# Altium integrated library Maxim Sensors.IntLib: 1171 symbols (part 3 of 61)
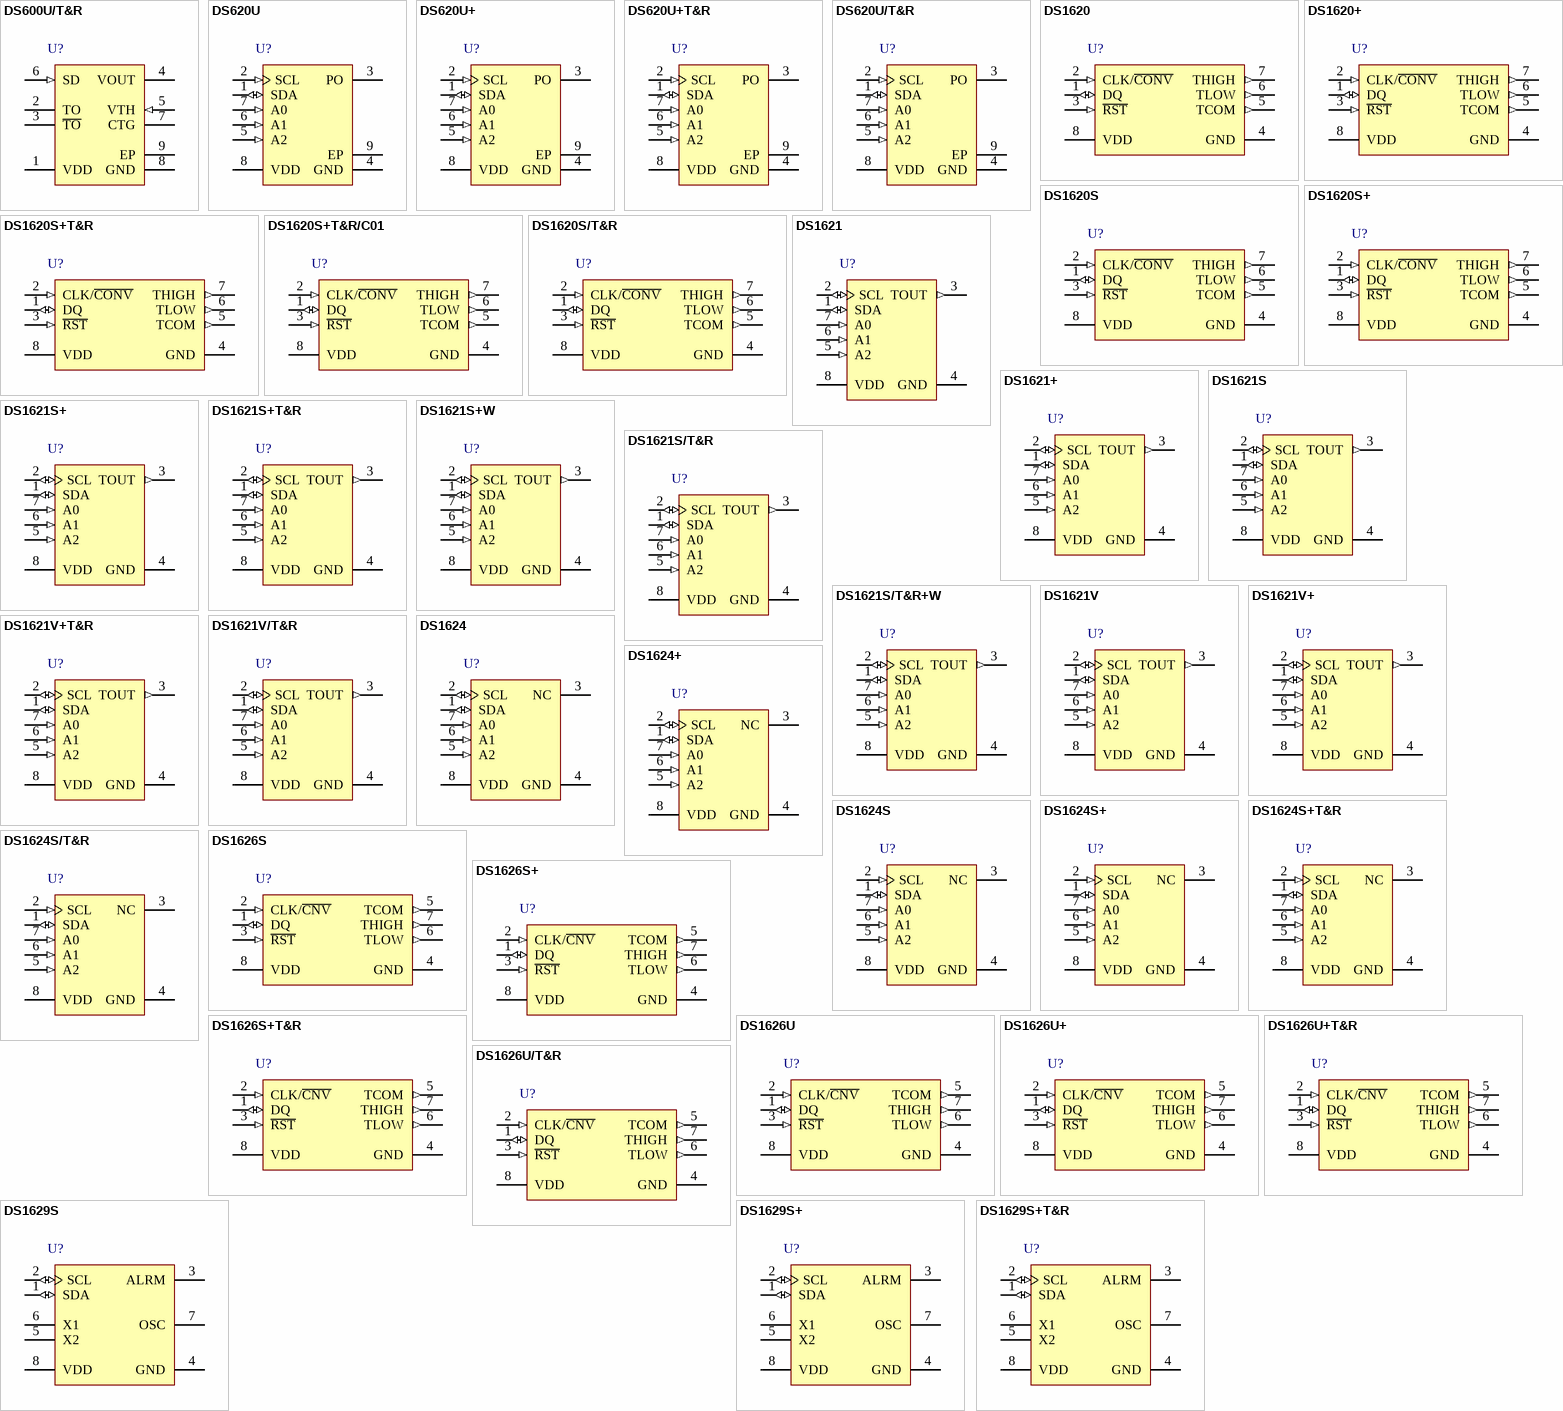
[diagram p35: symbols DS600U/T&R to DS1629S+T&R]

## DS1621S
designator U?
2-wire 0.5 degC Accurate Temperature Sensor and Thermostat, 9 to 12 Bits Temperature Resolution, -55 to 125 degC, 8-Pin SOIC (S8-4); Generic Part Number: DS1621; PartNumber: DS1621S; Functions: Single Temperature Alarm; Interface: 2-Wire/I2C/SMBus; Multi Droppable: Yes; Parasite Pwr.: No; DatasheetVersion: Rev. 3; PackageVersion: Rev. D, 10/2012; PackageReference: S8-4; PackageDescription: 8-Pin Small-Outline IC, Narrow, Body 3.9 x 4.9 mm, Pitch 1.27 mm; Supplier 1: Digi-Key; Supplier Part Number 1: DS1621S-ND; Supplier 2: Mouser; Supplier Part Number 2: N/A; Mounting Technology: Surface Mount; Code_JEDEC: MS-012; ComponentLink1Description: Manufacturer URL; ComponentLink1URL: http://www.maximintegrated.com/; ComponentLink2Description: Datasheet; ComponentLink2URL: http://datasheets.maximintegrated.com/en/ds/DS1621.pdf; ComponentLink3Description: Package Specification; ComponentLink3URL: http://pdfserv.maximintegrated.com/package_dwgs/21-0041.PDF
footprint MAXM-S8-4_N (SOIC, 8-Leads, Body 4.9x3.9mm, Pitch 1.27mm, IPC Medium Density)
footprint MAXM-S8-4_L (SOIC, 8-Leads, Body 4.9x3.9mm, Pitch 1.27mm, IPC High Density)
footprint MAXM-S8-4_M (SOIC, 8-Leads, Body 4.9x3.9mm, Pitch 1.27mm, IPC Low Density)
pins: 1 SDA (io) "Data input/output pin for 2-wire serial communication port.", 2 SCL (io) "Clock input/output pin for 2-wire serial communication port.", 3 TOUT (out) "Thermostat output. Active when temperature exceeds TH; will reset when temperature falls below TL.", 4 GND (power) "Ground pin.", 5 A2 (in) "Address input pin.", 6 A1 (in) "Address input pin.", 7 A0 (in) "Address input pin.", 8 VDD (power) "Supply voltage input power pin. (2.7V to 5.5V)"

## DS1621S+
designator U?
2-wire 0.5 degC Accurate Temperature Sensor and Thermostat, 9 to 12 Bits Temperature Resolution, -55 to 125 degC, 8-Pin SOIC (S8+2), Pb-Free; Generic Part Number: DS1621; PartNumber: DS1621S+; Functions: Single Temperature Alarm; Interface: 2-Wire/I2C/SMBus; Multi Droppable: Yes; Parasite Pwr.: No; DatasheetVersion: Rev. 3; PackageVersion: Rev. D, 10/2012; PackageReference: S8+2; PackageDescription: 8-Pin Small-Outline IC, Narrow (0.15in) (S8+2), Body 4.90 x 3.90 mm, Pitch 1.27 mm; Supplier 1: Digi-Key; Supplier Part Number 1: DS1621S+-ND; Supplier 2: Newark; Supplier Part Number 2: 23K3501; Supplier 3: Newark; Supplier Part Number 3: 91K6819; Supplier 4: Mouser; Supplier Part Number 4: 700-DS1621S; Mounting Technology: Surface Mount; Code_JEDEC: MS012; ComponentLink1Description: Manufacturer URL; ComponentLink1URL: http://www.maximintegrated.com/; ComponentLink2Description: Datasheet; ComponentLink2URL: http://datasheets.maximintegrated.com/en/ds/DS1621.pdf; ComponentLink3Description: Package Specification; ComponentLink3URL: http://pdfserv.maximintegrated.com/package_dwgs/21-0041.PDF
footprint MAXM-S8+2_N (SOIC, 8-Leads, Body 4.90x3.90mm, Pitch 1.27mm, IPC Medium Density)
footprint MAXM-S8+2_L (SOIC, 8-Leads, Body 4.90x3.90mm, Pitch 1.27mm, IPC High Density)
footprint MAXM-S8+2_M (SOIC, 8-Leads, Body 4.90x3.90mm, Pitch 1.27mm, IPC Low Density)
pins: 1 SDA (io) "Data input/output pin for 2-wire serial communication port.", 2 SCL (io) "Clock input/output pin for 2-wire serial communication port.", 3 TOUT (out) "Thermostat output. Active when temperature exceeds TH; will reset when temperature falls below TL.", 4 GND (power) "Ground pin.", 5 A2 (in) "Address input pin.", 6 A1 (in) "Address input pin.", 7 A0 (in) "Address input pin.", 8 VDD (power) "Supply voltage input power pin. (2.7V to 5.5V)"

## DS1621S+T&R
designator U?
2-wire 0.5 degC Accurate Temperature Sensor and Thermostat, 9 to 12 Bits Temperature Resolution, -55 to 125 degC, 8-Pin SOIC (S8+2), Pb-Free, Tape and Reel; Generic Part Number: DS1621; PartNumber: DS1621S+T&R; Functions: Single Temperature Alarm; Interface: 2-Wire/I2C/SMBus; Multi Droppable: Yes; Parasite Pwr.: No; DatasheetVersion: Rev. 3; PackageVersion: Rev. D, 10/2012; PackageReference: S8+2; PackageDescription: 8-Pin Small-Outline IC, Narrow (0.15in) (S8+2), Body 4.90 x 3.90 mm, Pitch 1.27 mm; Supplier 1: Digi-Key; Supplier Part Number 1: DS1621S+T&R-ND; Supplier 2: Mouser; Supplier Part Number 2: 700-DS1621ST&R; Packing: Tape and Reel; Mounting Technology: Surface Mount; Code_JEDEC: MS012; ComponentLink1Description: Manufacturer URL; ComponentLink1URL: http://www.maximintegrated.com/; ComponentLink2Description: Datasheet; ComponentLink2URL: http://datasheets.maximintegrated.com/en/ds/DS1621.pdf; ComponentLink3Description: Package Specification; ComponentLink3URL: http://pdfserv.maximintegrated.com/package_dwgs/21-0041.PDF
footprint MAXM-S8+2_N (SOIC, 8-Leads, Body 4.90x3.90mm, Pitch 1.27mm, IPC Medium Density)
footprint MAXM-S8+2_L (SOIC, 8-Leads, Body 4.90x3.90mm, Pitch 1.27mm, IPC High Density)
footprint MAXM-S8+2_M (SOIC, 8-Leads, Body 4.90x3.90mm, Pitch 1.27mm, IPC Low Density)
pins: 1 SDA (io) "Data input/output pin for 2-wire serial communication port.", 2 SCL (io) "Clock input/output pin for 2-wire serial communication port.", 3 TOUT (out) "Thermostat output. Active when temperature exceeds TH; will reset when temperature falls below TL.", 4 GND (power) "Ground pin.", 5 A2 (in) "Address input pin.", 6 A1 (in) "Address input pin.", 7 A0 (in) "Address input pin.", 8 VDD (power) "Supply voltage input power pin. (2.7V to 5.5V)"

## DS1621S+W
designator U?
2-wire 0.5 degC Accurate Temperature Sensor and Thermostat, 9 to 12 Bits Temperature Resolution, -55 to 125 degC, 8-Pin SOIC (S8+2), Pb-Free; Generic Part Number: DS1621; PartNumber: DS1621S+W; Functions: Single Temperature Alarm; Interface: 2-Wire/I2C/SMBus; Multi Droppable: Yes; Parasite Pwr.: No; DatasheetVersion: Rev. 3; PackageVersion: Rev. D, 10/2012; PackageReference: S8+2; PackageDescription: 8-Pin Small-Outline IC, Narrow (0.15in) (S8+2), Body 4.90 x 3.90 mm, Pitch 1.27 mm; Supplier 1: Mouser; Supplier Part Number 1: N/A; Mounting Technology: Surface Mount; Code_JEDEC: MS012; ComponentLink1Description: Manufacturer URL; ComponentLink1URL: http://www.maximintegrated.com/; ComponentLink2Description: Datasheet; ComponentLink2URL: http://datasheets.maximintegrated.com/en/ds/DS1621.pdf; ComponentLink3Description: Package Specification; ComponentLink3URL: http://pdfserv.maximintegrated.com/package_dwgs/21-0041.PDF
footprint MAXM-S8+2_N (SOIC, 8-Leads, Body 4.90x3.90mm, Pitch 1.27mm, IPC Medium Density)
footprint MAXM-S8+2_L (SOIC, 8-Leads, Body 4.90x3.90mm, Pitch 1.27mm, IPC High Density)
footprint MAXM-S8+2_M (SOIC, 8-Leads, Body 4.90x3.90mm, Pitch 1.27mm, IPC Low Density)
pins: 1 SDA (io) "Data input/output pin for 2-wire serial communication port.", 2 SCL (io) "Clock input/output pin for 2-wire serial communication port.", 3 TOUT (out) "Thermostat output. Active when temperature exceeds TH; will reset when temperature falls below TL.", 4 GND (power) "Ground pin.", 5 A2 (in) "Address input pin.", 6 A1 (in) "Address input pin.", 7 A0 (in) "Address input pin.", 8 VDD (power) "Supply voltage input power pin. (2.7V to 5.5V)"

## DS1621S/T&R
designator U?
2-wire 0.5 degC Accurate Temperature Sensor and Thermostat, 9 to 12 Bits Temperature Resolution, -55 to 125 degC, 8-Pin SOIC (S8-4), Tape and Reel; Generic Part Number: DS1621; PartNumber: DS1621S/T&R; Functions: Single Temperature Alarm; Interface: 2-Wire/I2C/SMBus; Multi Droppable: Yes; Parasite Pwr.: No; DatasheetVersion: Rev. 3; PackageVersion: Rev. D, 10/2012; PackageReference: S8-4; PackageDescription: 8-Pin Small-Outline IC, Narrow, Body 3.9 x 4.9 mm, Pitch 1.27 mm; Supplier 1: Digi-Key; Supplier Part Number 1: DS1621S/T&R-ND; Supplier 2: Mouser; Supplier Part Number 2: N/A; Packing: Tape and Reel; Mounting Technology: Surface Mount; Code_JEDEC: MS-012; ComponentLink1Description: Manufacturer URL; ComponentLink1URL: http://www.maximintegrated.com/; ComponentLink2Description: Datasheet; ComponentLink2URL: http://datasheets.maximintegrated.com/en/ds/DS1621.pdf; ComponentLink3Description: Package Specification; ComponentLink3URL: http://pdfserv.maximintegrated.com/package_dwgs/21-0041.PDF
footprint MAXM-S8-4_N (SOIC, 8-Leads, Body 4.9x3.9mm, Pitch 1.27mm, IPC Medium Density)
footprint MAXM-S8-4_L (SOIC, 8-Leads, Body 4.9x3.9mm, Pitch 1.27mm, IPC High Density)
footprint MAXM-S8-4_M (SOIC, 8-Leads, Body 4.9x3.9mm, Pitch 1.27mm, IPC Low Density)
pins: 1 SDA (io) "Data input/output pin for 2-wire serial communication port.", 2 SCL (io) "Clock input/output pin for 2-wire serial communication port.", 3 TOUT (out) "Thermostat output. Active when temperature exceeds TH; will reset when temperature falls below TL.", 4 GND (power) "Ground pin.", 5 A2 (in) "Address input pin.", 6 A1 (in) "Address input pin.", 7 A0 (in) "Address input pin.", 8 VDD (power) "Supply voltage input power pin. (2.7V to 5.5V)"

## DS1621S/T&R+W
designator U?
2-wire 0.5 degC Accurate Temperature Sensor and Thermostat, 9 to 12 Bits Temperature Resolution, -55 to 125 degC, 8-Pin SOIC (S8+2), Pb-Free, Tape and Reel; Generic Part Number: DS1621; PartNumber: DS1621S/T&R+W; Functions: Single Temperature Alarm; Interface: 2-Wire/I2C/SMBus; Multi Droppable: Yes; Parasite Pwr.: No; DatasheetVersion: Rev. 3; PackageVersion: Rev. D, 10/2012; PackageReference: S8+2; PackageDescription: 8-Pin Small-Outline IC, Narrow (0.15in) (S8+2), Body 4.90 x 3.90 mm, Pitch 1.27 mm; Supplier 1: Mouser; Supplier Part Number 1: N/A; Packing: Tape and Reel; Mounting Technology: Surface Mount; Code_JEDEC: MS012; ComponentLink1Description: Manufacturer URL; ComponentLink1URL: http://www.maximintegrated.com/; ComponentLink2Description: Datasheet; ComponentLink2URL: http://datasheets.maximintegrated.com/en/ds/DS1621.pdf; ComponentLink3Description: Package Specification; ComponentLink3URL: http://pdfserv.maximintegrated.com/package_dwgs/21-0041.PDF
footprint MAXM-S8+2_N (SOIC, 8-Leads, Body 4.90x3.90mm, Pitch 1.27mm, IPC Medium Density)
footprint MAXM-S8+2_L (SOIC, 8-Leads, Body 4.90x3.90mm, Pitch 1.27mm, IPC High Density)
footprint MAXM-S8+2_M (SOIC, 8-Leads, Body 4.90x3.90mm, Pitch 1.27mm, IPC Low Density)
pins: 1 SDA (io) "Data input/output pin for 2-wire serial communication port.", 2 SCL (io) "Clock input/output pin for 2-wire serial communication port.", 3 TOUT (out) "Thermostat output. Active when temperature exceeds TH; will reset when temperature falls below TL.", 4 GND (power) "Ground pin.", 5 A2 (in) "Address input pin.", 6 A1 (in) "Address input pin.", 7 A0 (in) "Address input pin.", 8 VDD (power) "Supply voltage input power pin. (2.7V to 5.5V)"

## DS1621V
designator U?
2-wire 0.5 degC Accurate Temperature Sensor and Thermostat, 9 to 12 Bits Temperature Resolution, -55 to 125 degC, 8-Pin SOIC (W8-2); Generic Part Number: DS1621; PartNumber: DS1621V; Functions: Single Temperature Alarm; Interface: 2-Wire/I2C/SMBus; Multi Droppable: Yes; Parasite Pwr.: No; DatasheetVersion: Rev. 3; PackageVersion: Rev. B, 01/2010; PackageReference: W8-2; PackageDescription: 8-Pin Small-Outline IC, Body 5.285 x 5.31 mm, Pitch 1.27 mm; Supplier 1: Digi-Key; Supplier Part Number 1: DS1621V-ND; Supplier 2: Mouser; Supplier Part Number 2: N/A; Mounting Technology: Surface Mount; ComponentLink1Description: Manufacturer URL; ComponentLink1URL: http://www.maximintegrated.com/; ComponentLink2Description: Datasheet; ComponentLink2URL: http://datasheets.maximintegrated.com/en/ds/DS1621.pdf; ComponentLink3Description: Package Specification; ComponentLink3URL: http://pdfserv.maximintegrated.com/package_dwgs/21-0262.PDF
footprint MAXM-W8-2_N (SOIC, 8-Leads, Body 5.31x5.285mm, Pitch 1.27mm, IPC Medium Density)
footprint MAXM-W8-2_L (SOIC, 8-Leads, Body 5.31x5.285mm, Pitch 1.27mm, IPC High Density)
footprint MAXM-W8-2_M (SOIC, 8-Leads, Body 5.31x5.285mm, Pitch 1.27mm, IPC Low Density)
pins: 1 SDA (io) "Data input/output pin for 2-wire serial communication port.", 2 SCL (io) "Clock input/output pin for 2-wire serial communication port.", 3 TOUT (out) "Thermostat output. Active when temperature exceeds TH; will reset when temperature falls below TL.", 4 GND (power) "Ground pin.", 5 A2 (in) "Address input pin.", 6 A1 (in) "Address input pin.", 7 A0 (in) "Address input pin.", 8 VDD (power) "Supply voltage input power pin. (2.7V to 5.5V)"

## DS1621V+
designator U?
2-wire 0.5 degC Accurate Temperature Sensor and Thermostat, 9 to 12 Bits Temperature Resolution, -55 to 125 degC, 8-Pin SOIC (W8+2), Pb-Free; Generic Part Number: DS1621; PartNumber: DS1621V+; Functions: Single Temperature Alarm; Interface: 2-Wire/I2C/SMBus; Multi Droppable: Yes; Parasite Pwr.: No; DatasheetVersion: Rev. 3; PackageVersion: Rev. B, 01/2010; PackageReference: W8+2; PackageDescription: 8-Pin Small-Outline IC, Body 5.285 x 5.31 mm, Pitch 1.27 mm; Supplier 1: Digi-Key; Supplier Part Number 1: DS1621V+-ND; Supplier 2: Mouser; Supplier Part Number 2: 700-DS1621V; Mounting Technology: Surface Mount; ComponentLink1Description: Manufacturer URL; ComponentLink1URL: http://www.maximintegrated.com/; ComponentLink2Description: Datasheet; ComponentLink2URL: http://datasheets.maximintegrated.com/en/ds/DS1621.pdf; ComponentLink3Description: Package Specification; ComponentLink3URL: http://pdfserv.maximintegrated.com/package_dwgs/21-0262.PDF
footprint MAXM-W8+2_N (SOIC, 8-Leads, Body 5.31x5.285mm, Pitch 1.27mm, IPC Medium Density)
footprint MAXM-W8+2_L (SOIC, 8-Leads, Body 5.31x5.285mm, Pitch 1.27mm, IPC High Density)
footprint MAXM-W8+2_M (SOIC, 8-Leads, Body 5.31x5.285mm, Pitch 1.27mm, IPC Low Density)
pins: 1 SDA (io) "Data input/output pin for 2-wire serial communication port.", 2 SCL (io) "Clock input/output pin for 2-wire serial communication port.", 3 TOUT (out) "Thermostat output. Active when temperature exceeds TH; will reset when temperature falls below TL.", 4 GND (power) "Ground pin.", 5 A2 (in) "Address input pin.", 6 A1 (in) "Address input pin.", 7 A0 (in) "Address input pin.", 8 VDD (power) "Supply voltage input power pin. (2.7V to 5.5V)"

## DS1621V+T&R
designator U?
2-wire 0.5 degC Accurate Temperature Sensor and Thermostat, 9 to 12 Bits Temperature Resolution, -55 to 125 degC, 8-Pin SOIC (W8+2), Pb-Free, Tape and Reel; Generic Part Number: DS1621; PartNumber: DS1621V+T&R; Functions: Single Temperature Alarm; Interface: 2-Wire/I2C/SMBus; Multi Droppable: Yes; Parasite Pwr.: No; DatasheetVersion: Rev. 3; PackageVersion: Rev. B, 01/2010; PackageReference: W8+2; PackageDescription: 8-Pin Small-Outline IC, Body 5.285 x 5.31 mm, Pitch 1.27 mm; Supplier 1: Digi-Key; Supplier Part Number 1: DS1621V+T&R-ND; Supplier 2: Mouser; Supplier Part Number 2: 700-DS1621VT&R; Packing: Tape and Reel; Mounting Technology: Surface Mount; ComponentLink1Description: Manufacturer URL; ComponentLink1URL: http://www.maximintegrated.com/; ComponentLink2Description: Datasheet; ComponentLink2URL: http://datasheets.maximintegrated.com/en/ds/DS1621.pdf; ComponentLink3Description: Package Specification; ComponentLink3URL: http://pdfserv.maximintegrated.com/package_dwgs/21-0262.PDF
footprint MAXM-W8+2_N (SOIC, 8-Leads, Body 5.31x5.285mm, Pitch 1.27mm, IPC Medium Density)
footprint MAXM-W8+2_L (SOIC, 8-Leads, Body 5.31x5.285mm, Pitch 1.27mm, IPC High Density)
footprint MAXM-W8+2_M (SOIC, 8-Leads, Body 5.31x5.285mm, Pitch 1.27mm, IPC Low Density)
pins: 1 SDA (io) "Data input/output pin for 2-wire serial communication port.", 2 SCL (io) "Clock input/output pin for 2-wire serial communication port.", 3 TOUT (out) "Thermostat output. Active when temperature exceeds TH; will reset when temperature falls below TL.", 4 GND (power) "Ground pin.", 5 A2 (in) "Address input pin.", 6 A1 (in) "Address input pin.", 7 A0 (in) "Address input pin.", 8 VDD (power) "Supply voltage input power pin. (2.7V to 5.5V)"

## DS1621V/T&R
designator U?
2-wire 0.5 degC Accurate Temperature Sensor and Thermostat, 9 to 12 Bits Temperature Resolution, -55 to 125 degC, 8-Pin SOIC (W8-2), Tape and Reel; Generic Part Number: DS1621; PartNumber: DS1621V/T&R; Functions: Single Temperature Alarm; Interface: 2-Wire/I2C/SMBus; Multi Droppable: Yes; Parasite Pwr.: No; DatasheetVersion: Rev. 3; PackageVersion: Rev. B, 01/2010; PackageReference: W8-2; PackageDescription: 8-Pin Small-Outline IC, Body 5.285 x 5.31 mm, Pitch 1.27 mm; Supplier 1: Digi-Key; Supplier Part Number 1: DS1621V/T&R-ND; Supplier 2: Mouser; Supplier Part Number 2: N/A; Packing: Tape and Reel; Mounting Technology: Surface Mount; ComponentLink1Description: Manufacturer URL; ComponentLink1URL: http://www.maximintegrated.com/; ComponentLink2Description: Datasheet; ComponentLink2URL: http://datasheets.maximintegrated.com/en/ds/DS1621.pdf; ComponentLink3Description: Package Specification; ComponentLink3URL: http://pdfserv.maximintegrated.com/package_dwgs/21-0262.PDF
footprint MAXM-W8-2_N (SOIC, 8-Leads, Body 5.31x5.285mm, Pitch 1.27mm, IPC Medium Density)
footprint MAXM-W8-2_L (SOIC, 8-Leads, Body 5.31x5.285mm, Pitch 1.27mm, IPC High Density)
footprint MAXM-W8-2_M (SOIC, 8-Leads, Body 5.31x5.285mm, Pitch 1.27mm, IPC Low Density)
pins: 1 SDA (io) "Data input/output pin for 2-wire serial communication port.", 2 SCL (io) "Clock input/output pin for 2-wire serial communication port.", 3 TOUT (out) "Thermostat output. Active when temperature exceeds TH; will reset when temperature falls below TL.", 4 GND (power) "Ground pin.", 5 A2 (in) "Address input pin.", 6 A1 (in) "Address input pin.", 7 A0 (in) "Address input pin.", 8 VDD (power) "Supply voltage input power pin. (2.7V to 5.5V)"

## DS1624
designator U?
Digital Thermometer and 256-Byte EEPROM, 13 Bits Temperature Resolution, -55 to 125 degC, 8-Pin DIP (P8-4); Generic Part Number: DS1624; Functions: Memory; Interface: 2-Wire/I2C/SMBus; Multi Droppable: Yes; Parasite Pwr.: No; DatasheetVersion: Rev. 3; PackageVersion: Rev. E, 04/2011; PackageReference: P8-4; PackageDescription: 8-Pin Plastic Dual-In-Line, Narrow, Body 9.375 x 6.985 mm, Pitch 2.54 mm; Supplier 1: Digi-Key; Supplier Part Number 1: DS1624-ND; Supplier 2: Mouser; Supplier Part Number 2: N/A; Mounting Technology: Through Hole; Code_JEDEC: MO-058AB; PartNumber: DS1624; ComponentLink1Description: Manufacturer URL; ComponentLink1URL: http://www.maximintegrated.com/; ComponentLink2Description: Datasheet; ComponentLink2URL: http://datasheets.maximintegrated.com/en/ds/DS1624.pdf; ComponentLink3Description: Package Specification; ComponentLink3URL: http://pdfserv.maximintegrated.com/package_dwgs/21-0043.PDF
footprint MAXM-P8-4 (DIP, 8-Leads, Body 9.375x6.985mm, Pitch 2.54mm)
pins: 1 SDA (io) "Data input/output pin for 2-wire serial communication port.", 2 SCL (io) "Clock input/output pin for 2-wire serial communication port.", 3 NC "No connect. No Internal Connection.", 4 GND (power) "Ground pin.", 5 A2 (in) "Address input pin.", 6 A1 (in) "Address input pin.", 7 A0 (in) "Address input pin.", 8 VDD (power) "Supply Voltage 2.7V to 5.5V input power pin."

## DS1624+
designator U?
Digital Thermometer and 256-Byte EEPROM, 13 Bits Temperature Resolution, -55 to 125 degC, 8-Pin DIP (P8+4), Pb-Free; Generic Part Number: DS1624; PartNumber: DS1624+; Functions: Memory; Interface: 2-Wire/I2C/SMBus; Multi Droppable: Yes; Parasite Pwr.: No; DatasheetVersion: Rev. 3; PackageVersion: Rev. E, 04/2011; PackageReference: P8+4; PackageDescription: 8-Pin Plastic Dual-In-Line, Narrow, Body 9.375 x 6.985 mm, Pitch 2.54 mm; Supplier 1: Digi-Key; Supplier Part Number 1: DS1624+-ND; Supplier 2: Mouser; Supplier Part Number 2: 700-DS1624; Mounting Technology: Through Hole; Code_JEDEC: MO-058AB; ComponentLink1Description: Manufacturer URL; ComponentLink1URL: http://www.maximintegrated.com/; ComponentLink2Description: Datasheet; ComponentLink2URL: http://datasheets.maximintegrated.com/en/ds/DS1624.pdf; ComponentLink3Description: Package Specification; ComponentLink3URL: http://pdfserv.maximintegrated.com/package_dwgs/21-0043.PDF
footprint MAXM-P8+4 (DIP, 8-Leads, Body 9.375x6.985mm, Pitch 2.54mm)
pins: 1 SDA (io) "Data input/output pin for 2-wire serial communication port.", 2 SCL (io) "Clock input/output pin for 2-wire serial communication port.", 3 NC "No connect. No Internal Connection.", 4 GND (power) "Ground pin.", 5 A2 (in) "Address input pin.", 6 A1 (in) "Address input pin.", 7 A0 (in) "Address input pin.", 8 VDD (power) "Supply Voltage 2.7V to 5.5V input power pin."

## DS1624S
designator U?
Digital Thermometer and 256-Byte EEPROM, 13 Bits Temperature Resolution, -55 to 125 degC, 8-Pin SOIC (W8+2); Generic Part Number: DS1624; PartNumber: DS1624S; Functions: Memory; Interface: 2-Wire/I2C/SMBus; Multi Droppable: Yes; Parasite Pwr.: No; DatasheetVersion: Rev. 3; PackageVersion: Rev. B, 01/2010; PackageReference: W8-2; PackageDescription: 8-Pin Small-Outline IC, Body 5.285 x 5.31 mm, Pitch 1.27 mm; Supplier 1: Digi-Key; Supplier Part Number 1: DS1624S-ND; Supplier 2: Mouser; Supplier Part Number 2: N/A; Mounting Technology: Surface Mount; ComponentLink1Description: Manufacturer URL; ComponentLink1URL: http://www.maximintegrated.com/; ComponentLink2Description: Datasheet; ComponentLink2URL: http://datasheets.maximintegrated.com/en/ds/DS1624.pdf; ComponentLink3Description: Package Specification; ComponentLink3URL: http://pdfserv.maximintegrated.com/package_dwgs/21-0262.PDF
footprint MAXM-W8-2_N (SOIC, 8-Leads, Body 5.31x5.285mm, Pitch 1.27mm, IPC Medium Density)
footprint MAXM-W8-2_L (SOIC, 8-Leads, Body 5.31x5.285mm, Pitch 1.27mm, IPC High Density)
footprint MAXM-W8-2_M (SOIC, 8-Leads, Body 5.31x5.285mm, Pitch 1.27mm, IPC Low Density)
pins: 1 SDA (io) "Data input/output pin for 2-wire serial communication port.", 2 SCL (in) "Clock input/output pin for 2-wire serial communication port.", 3 NC "No connect. No Internal Connection.", 4 GND (power) "Ground pin.", 5 A2 (in) "Address input pin.", 6 A1 (in) "Address input pin.", 7 A0 (in) "Address input pin.", 8 VDD (power) "Supply Voltage 2.7V to 5.5V input power pin."

## DS1624S+
designator U?
Digital Thermometer and 256-Byte EEPROM, 13 Bits Temperature Resolution, -55 to 125 degC, 8-Pin SOIC (W8+2), Pb-Free; Generic Part Number: DS1624; PartNumber: DS1624S+; Functions: Memory; Interface: 2-Wire/I2C/SMBus; Multi Droppable: Yes; Parasite Pwr.: No; DatasheetVersion: Rev. 3; PackageVersion: Rev. B, 01/2010; PackageReference: W8+2; PackageDescription: 8-Pin Small-Outline IC, Body 5.285 x 5.31 mm, Pitch 1.27 mm; Supplier 1: Digi-Key; Supplier Part Number 1: DS1624S+-ND; Supplier 2: Newark; Supplier Part Number 2: 91K6820; Supplier 3: Mouser; Supplier Part Number 3: 700-DS1624S; Mounting Technology: Surface Mount; ComponentLink1Description: Manufacturer URL; ComponentLink1URL: http://www.maximintegrated.com/; ComponentLink2Description: Datasheet; ComponentLink2URL: http://datasheets.maximintegrated.com/en/ds/DS1624.pdf; ComponentLink3Description: Package Specification; ComponentLink3URL: http://pdfserv.maximintegrated.com/package_dwgs/21-0262.PDF
footprint MAXM-W8+2_N (SOIC, 8-Leads, Body 5.31x5.285mm, Pitch 1.27mm, IPC Medium Density)
footprint MAXM-W8+2_L (SOIC, 8-Leads, Body 5.31x5.285mm, Pitch 1.27mm, IPC High Density)
footprint MAXM-W8+2_M (SOIC, 8-Leads, Body 5.31x5.285mm, Pitch 1.27mm, IPC Low Density)
pins: 1 SDA (io) "Data input/output pin for 2-wire serial communication port.", 2 SCL (in) "Clock input/output pin for 2-wire serial communication port.", 3 NC "No connect. No Internal Connection.", 4 GND (power) "Ground pin.", 5 A2 (in) "Address input pin.", 6 A1 (in) "Address input pin.", 7 A0 (in) "Address input pin.", 8 VDD (power) "Supply Voltage 2.7V to 5.5V input power pin."

## DS1624S+T&R
designator U?
Digital Thermometer and 256-Byte EEPROM, 13 Bits Temperature Resolution, -55 to 125 degC, 8-Pin SOIC (W8+2), Pb-Free, Tape and Reel; Generic Part Number: DS1624; PartNumber: DS1624S+T&R; Functions: Memory; Interface: 2-Wire/I2C/SMBus; Multi Droppable: Yes; Parasite Pwr.: No; DatasheetVersion: Rev. 3; PackageVersion: Rev. B, 01/2010; PackageReference: W8+2; PackageDescription: 8-Pin Small-Outline IC, Body 5.285 x 5.31 mm, Pitch 1.27 mm; Supplier 1: Digi-Key; Supplier Part Number 1: DS1624S+T&R-ND; Supplier 2: Mouser; Supplier Part Number 2: 700-DS1624ST&R; Packing: Tape and Reel; Mounting Technology: Surface Mount; ComponentLink1Description: Manufacturer URL; ComponentLink1URL: http://www.maximintegrated.com/; ComponentLink2Description: Datasheet; ComponentLink2URL: http://datasheets.maximintegrated.com/en/ds/DS1624.pdf; ComponentLink3Description: Package Specification; ComponentLink3URL: http://pdfserv.maximintegrated.com/package_dwgs/21-0262.PDF
footprint MAXM-W8+2_N (SOIC, 8-Leads, Body 5.31x5.285mm, Pitch 1.27mm, IPC Medium Density)
footprint MAXM-W8+2_L (SOIC, 8-Leads, Body 5.31x5.285mm, Pitch 1.27mm, IPC High Density)
footprint MAXM-W8+2_M (SOIC, 8-Leads, Body 5.31x5.285mm, Pitch 1.27mm, IPC Low Density)
pins: 1 SDA (io) "Data input/output pin for 2-wire serial communication port.", 2 SCL (in) "Clock input/output pin for 2-wire serial communication port.", 3 NC "No connect. No Internal Connection.", 4 GND (power) "Ground pin.", 5 A2 (in) "Address input pin.", 6 A1 (in) "Address input pin.", 7 A0 (in) "Address input pin.", 8 VDD (power) "Supply Voltage 2.7V to 5.5V input power pin."

## DS1624S/T&R
designator U?
Digital Thermometer and 256-Byte EEPROM, 13 Bits Temperature Resolution, -55 to 125 degC, 8-Pin SOIC (W8+2), Tape and Reel; Generic Part Number: DS1624; PartNumber: DS1624S/T&R; Functions: Memory; Interface: 2-Wire/I2C/SMBus; Multi Droppable: Yes; Parasite Pwr.: No; DatasheetVersion: Rev. 3; PackageVersion: Rev. B, 01/2010; PackageReference: W8-2; PackageDescription: 8-Pin Small-Outline IC, Body 5.285 x 5.31 mm, Pitch 1.27 mm; Supplier 1: Digi-Key; Supplier Part Number 1: DS1624S/T&R-ND; Supplier 2: Mouser; Supplier Part Number 2: N/A; Packing: Tape and Reel; Mounting Technology: Surface Mount; ComponentLink1Description: Manufacturer URL; ComponentLink1URL: http://www.maximintegrated.com/; ComponentLink2Description: Datasheet; ComponentLink2URL: http://datasheets.maximintegrated.com/en/ds/DS1624.pdf; ComponentLink3Description: Package Specification; ComponentLink3URL: http://pdfserv.maximintegrated.com/package_dwgs/21-0262.PDF
footprint MAXM-W8-2_N (SOIC, 8-Leads, Body 5.31x5.285mm, Pitch 1.27mm, IPC Medium Density)
footprint MAXM-W8-2_L (SOIC, 8-Leads, Body 5.31x5.285mm, Pitch 1.27mm, IPC High Density)
footprint MAXM-W8-2_M (SOIC, 8-Leads, Body 5.31x5.285mm, Pitch 1.27mm, IPC Low Density)
pins: 1 SDA (io) "Data input/output pin for 2-wire serial communication port.", 2 SCL (in) "Clock input/output pin for 2-wire serial communication port.", 3 NC "No connect. No Internal Connection.", 4 GND (power) "Ground pin.", 5 A2 (in) "Address input pin.", 6 A1 (in) "Address input pin.", 7 A0 (in) "Address input pin.", 8 VDD (power) "Supply Voltage 2.7V to 5.5V input power pin."

## DS1626S
designator U?
3-Wire + / - 0.5 degC Accurate Digital Thermometer and Thermostat, -55 to 125 degC, 8-Pin SOIC (W8-2); Generic Part Number: DS1626; PartNumber: DS1626S; Functions: Dual Output Temperature Switch, Dual Temperature Alarms, Standalone Thermostat, Temperature Switch/Temperature Comparator; Interface: 3-Wire, Logic; Switch Type: Local; DatasheetVersion: Rev. 4; PackageVersion: Rev. B, 01/2010; PackageReference: W8-2; PackageDescription: 8-Pin Small-Outline IC, Body 5.285 x 5.31 mm, Pitch 1.27 mm; Supplier 1: Mouser; Supplier Part Number 1: N/A; Mounting Technology: Surface Mount; ComponentLink1Description: Manufacturer URL; ComponentLink1URL: http://www.maximintegrated.com/; ComponentLink2Description: Datasheet; ComponentLink2URL: http://datasheets.maximintegrated.com/en/ds/DS1626-DS1726.pdf; ComponentLink3Description: Package Specification; ComponentLink3URL: http://pdfserv.maximintegrated.com/package_dwgs/21-0262.PDF
footprint MAXM-W8-2_N (SOIC, 8-Leads, Body 5.31x5.285mm, Pitch 1.27mm, IPC Medium Density)
footprint MAXM-W8-2_L (SOIC, 8-Leads, Body 5.31x5.285mm, Pitch 1.27mm, IPC High Density)
footprint MAXM-W8-2_M (SOIC, 8-Leads, Body 5.31x5.285mm, Pitch 1.27mm, IPC Low Density)
pins: 1 DQ (io) "Data Input/Output Pin (Tri-State) for 3-Wire Serial Communication", 2 CLK/~{CNV} (in) "Clock Input Pin for 3-Wire Serial Communication. Controls temperature measurements when the DS1626/DS1726 is configured as a stand-alone thermostat", 3 ~{RST} (in) "Reset Input Pin for 3-Wire Serial Communication", 4 GND (power) "Ground Pin", 5 TCOM (out) "Thermostat Output Pin (Push-Pull) with Programmable Hysteresis", 6 TLOW (out) "Thermostat Output Pin (Push-Pull) with TL Trip Point", 7 THIGH (out) "Thermostat Output Pin (Push-Pull) with TH Trip Point", 8 VDD (power) "Supply Voltage. +2.7V to +5.5V input power pin."

## DS1626S+
designator U?
3-Wire + / - 0.5 degC Accurate Digital Thermometer and Thermostat, -55 to 125 degC, 8-Pin SOIC (W8+2), Pb-Free; Generic Part Number: DS1626; PartNumber: DS1626S+; Functions: Dual Output Temperature Switch, Dual Temperature Alarms, Standalone Thermostat, Temperature Switch/Temperature Comparator; Interface: 3-Wire, Logic; Switch Type: Local; DatasheetVersion: Rev. 4; PackageVersion: Rev. B, 01/2010; PackageReference: W8+2; PackageDescription: 8-Pin Small-Outline IC, Body 5.285 x 5.31 mm, Pitch 1.27 mm; Supplier 1: Digi-Key; Supplier Part Number 1: DS1626S+-ND; Supplier 2: Farnell; Supplier Part Number 2: 1569965; Supplier 3: Newark; Supplier Part Number 3: 26R5781; Supplier 4: Mouser; Supplier Part Number 4: 700-DS1626S; RoHS: Pb-Free; Mounting Technology: Surface Mount; ComponentLink1Description: Manufacturer URL; ComponentLink1URL: http://www.maximintegrated.com/; ComponentLink2Description: Datasheet; ComponentLink2URL: http://datasheets.maximintegrated.com/en/ds/DS1626-DS1726.pdf; ComponentLink3Description: Package Specification; ComponentLink3URL: http://pdfserv.maximintegrated.com/package_dwgs/21-0262.PDF
footprint MAXM-W8+2_N (SOIC, 8-Leads, Body 5.31x5.285mm, Pitch 1.27mm, IPC Medium Density)
footprint MAXM-W8+2_L (SOIC, 8-Leads, Body 5.31x5.285mm, Pitch 1.27mm, IPC High Density)
footprint MAXM-W8+2_M (SOIC, 8-Leads, Body 5.31x5.285mm, Pitch 1.27mm, IPC Low Density)
pins: 1 DQ (io) "Data Input/Output Pin (Tri-State) for 3-Wire Serial Communication", 2 CLK/~{CNV} (in) "Clock Input Pin for 3-Wire Serial Communication. Controls temperature measurements when the DS1626/DS1726 is configured as a stand-alone thermostat", 3 ~{RST} (in) "Reset Input Pin for 3-Wire Serial Communication", 4 GND (power) "Ground Pin", 5 TCOM (out) "Thermostat Output Pin (Push-Pull) with Programmable Hysteresis", 6 TLOW (out) "Thermostat Output Pin (Push-Pull) with TL Trip Point", 7 THIGH (out) "Thermostat Output Pin (Push-Pull) with TH Trip Point", 8 VDD (power) "Supply Voltage. +2.7V to +5.5V input power pin."

## DS1626S+T&R
designator U?
3-Wire + / - 0.5 degC Accurate Digital Thermometer and Thermostat, -55 to 125 degC, 8-Pin SOIC (W8+2), Pb-Free, Tape and Reel; Generic Part Number: DS1626; PartNumber: DS1626S+T&R; Functions: Dual Output Temperature Switch, Dual Temperature Alarms, Standalone Thermostat, Temperature Switch/Temperature Comparator; Interface: 3-Wire, Logic; Switch Type: Local; DatasheetVersion: Rev. 4; PackageVersion: Rev. B, 01/2010; PackageReference: W8+2; PackageDescription: 8-Pin Small-Outline IC, Body 5.285 x 5.31 mm, Pitch 1.27 mm; Supplier 1: Digi-Key; Supplier Part Number 1: DS1626S+T&R-ND; Supplier 2: Mouser; Supplier Part Number 2: 700-DS1626ST&R; Packing: Tape and Reel; RoHS: Pb-Free; Mounting Technology: Surface Mount; ComponentLink1Description: Manufacturer URL; ComponentLink1URL: http://www.maximintegrated.com/; ComponentLink2Description: Datasheet; ComponentLink2URL: http://datasheets.maximintegrated.com/en/ds/DS1626-DS1726.pdf; ComponentLink3Description: Package Specification; ComponentLink3URL: http://pdfserv.maximintegrated.com/package_dwgs/21-0262.PDF
footprint MAXM-W8+2_N (SOIC, 8-Leads, Body 5.31x5.285mm, Pitch 1.27mm, IPC Medium Density)
footprint MAXM-W8+2_L (SOIC, 8-Leads, Body 5.31x5.285mm, Pitch 1.27mm, IPC High Density)
footprint MAXM-W8+2_M (SOIC, 8-Leads, Body 5.31x5.285mm, Pitch 1.27mm, IPC Low Density)
pins: 1 DQ (io) "Data Input/Output Pin (Tri-State) for 3-Wire Serial Communication", 2 CLK/~{CNV} (in) "Clock Input Pin for 3-Wire Serial Communication. Controls temperature measurements when the DS1626/DS1726 is configured as a stand-alone thermostat", 3 ~{RST} (in) "Reset Input Pin for 3-Wire Serial Communication", 4 GND (power) "Ground Pin", 5 TCOM (out) "Thermostat Output Pin (Push-Pull) with Programmable Hysteresis", 6 TLOW (out) "Thermostat Output Pin (Push-Pull) with TL Trip Point", 7 THIGH (out) "Thermostat Output Pin (Push-Pull) with TH Trip Point", 8 VDD (power) "Supply Voltage. +2.7V to +5.5V input power pin."

## DS1626U
designator U?
3-Wire + / - 0.5 degC Accurate Digital Thermometer and Thermostat, -55 to 125 degC, 8-Pin SOP (U8-1); Generic Part Number: DS1626; PartNumber: DS1626U; Functions: Dual Output Temperature Switch, Dual Temperature Alarms, Standalone Thermostat, Temperature Switch/Temperature Comparator; Interface: 3-Wire, Logic; Switch Type: Local; DatasheetVersion: Rev. 4; PackageVersion: Rev. L, 08/2009; PackageReference: U8-1; PackageDescription: 8-Pin Micro-MAX, Thin Shrink Small-Outline (U8-1), Body 3 x 3 mm, Pitch 0.65mm; Supplier 1: Mouser; Supplier Part Number 1: N/A; Mounting Technology: Surface Mount; Code_JEDEC: MO-187; ComponentLink1Description: Manufacturer URL; ComponentLink1URL: http://www.maximintegrated.com/; ComponentLink2Description: Datasheet; ComponentLink2URL: http://datasheets.maximintegrated.com/en/ds/DS1626-DS1726.pdf; ComponentLink3Description: Package Specification; ComponentLink3URL: http://pdfserv.maximintegrated.com/package_dwgs/21-0036.PDF
footprint MAXM-U8-1_N (SOP, 8-Leads, Body 3x3mm, Pitch 0.65mm, IPC Medium Density)
footprint MAXM-U8-1_L (SOP, 8-Leads, Body 3x3mm, Pitch 0.65mm, IPC High Density)
footprint MAXM-U8-1_M (SOP, 8-Leads, Body 3x3mm, Pitch 0.65mm, IPC Low Density)
pins: 1 DQ (io) "Data Input/Output Pin (Tri-State) for 3-Wire Serial Communication", 2 CLK/~{CNV} (in) "Clock Input Pin for 3-Wire Serial Communication. Controls temperature measurements when the DS1626/DS1726 is configured as a stand-alone thermostat", 3 ~{RST} (in) "Reset Input Pin for 3-Wire Serial Communication", 4 GND (power) "Ground Pin", 5 TCOM (out) "Thermostat Output Pin (Push-Pull) with Programmable Hysteresis", 6 TLOW (out) "Thermostat Output Pin (Push-Pull) with TL Trip Point", 7 THIGH (out) "Thermostat Output Pin (Push-Pull) with TH Trip Point", 8 VDD (power) "Supply Voltage. +2.7V to +5.5V input power pin."

## DS1626U+
designator U?
3-Wire + / - 0.5 degC Accurate Digital Thermometer and Thermostat, -55 to 125 degC, 8-Pin SOP (U8+1), Pb-Free; Generic Part Number: DS1626; PartNumber: DS1626U+; Functions: Dual Output Temperature Switch, Dual Temperature Alarms, Standalone Thermostat, Temperature Switch/Temperature Comparator; Interface: 3-Wire, Logic; Switch Type: Local; DatasheetVersion: Rev. 4; PackageVersion: Rev. L, 08/2009; PackageReference: U8+1; PackageDescription: 8-Pin Micro-MAX, Thin Shrink Small-Outline (U8+1), Body 3 x 3 mm, Pitch 0.65 mm; Supplier 1: Digi-Key; Supplier Part Number 1: DS1626U+-ND; Supplier 2: Mouser; Supplier Part Number 2: 700-DS1626U; RoHS: Pb-Free; Mounting Technology: Surface Mount; Code_JEDEC: MO-187; ComponentLink1Description: Manufacturer URL; ComponentLink1URL: http://www.maximintegrated.com/; ComponentLink2Description: Datasheet; ComponentLink2URL: http://datasheets.maximintegrated.com/en/ds/DS1626-DS1726.pdf; ComponentLink3Description: Package Specification; ComponentLink3URL: http://pdfserv.maximintegrated.com/package_dwgs/21-0036.PDF
footprint MAXM-U8+1_N (SOP, 8-Leads, Body 3x3mm, Pitch 0.65mm, IPC Medium Density)
footprint MAXM-U8+1_L (SOP, 8-Leads, Body 3x3mm, Pitch 0.65mm, IPC High Density)
footprint MAXM-U8+1_M (SOP, 8-Leads, Body 3x3mm, Pitch 0.65mm, IPC Low Density)
pins: 1 DQ (io) "Data Input/Output Pin (Tri-State) for 3-Wire Serial Communication", 2 CLK/~{CNV} (in) "Clock Input Pin for 3-Wire Serial Communication. Controls temperature measurements when the DS1626/DS1726 is configured as a stand-alone thermostat", 3 ~{RST} (in) "Reset Input Pin for 3-Wire Serial Communication", 4 GND (power) "Ground Pin", 5 TCOM (out) "Thermostat Output Pin (Push-Pull) with Programmable Hysteresis", 6 TLOW (out) "Thermostat Output Pin (Push-Pull) with TL Trip Point", 7 THIGH (out) "Thermostat Output Pin (Push-Pull) with TH Trip Point", 8 VDD (power) "Supply Voltage. +2.7V to +5.5V input power pin."

## DS1626U+T&R
designator U?
3-Wire + / - 0.5 degC Accurate Digital Thermometer and Thermostat, -55 to 125 degC, 8-Pin SOP (U8+1), Pb-Free, Tape and Reel; Generic Part Number: DS1626; PartNumber: DS1626U+T&R; Functions: Dual Output Temperature Switch, Dual Temperature Alarms, Standalone Thermostat, Temperature Switch/Temperature Comparator; Interface: 3-Wire, Logic; Switch Type: Local; DatasheetVersion: Rev. 4; PackageVersion: Rev. L, 08/2009; PackageReference: U8+1; PackageDescription: 8-Pin Micro-MAX, Thin Shrink Small-Outline (U8+1), Body 3 x 3 mm, Pitch 0.65 mm; Supplier 1: Digi-Key; Supplier Part Number 1: DS1626U+T&R-ND; Supplier 2: Mouser; Supplier Part Number 2: 700-DS1626UT&R; Packing: Tape and Reel; RoHS: Pb-Free; Mounting Technology: Surface Mount; Code_JEDEC: MO-187; ComponentLink1Description: Manufacturer URL; ComponentLink1URL: http://www.maximintegrated.com/; ComponentLink2Description: Datasheet; ComponentLink2URL: http://datasheets.maximintegrated.com/en/ds/DS1626-DS1726.pdf; ComponentLink3Description: Package Specification; ComponentLink3URL: http://pdfserv.maximintegrated.com/package_dwgs/21-0036.PDF
footprint MAXM-U8+1_N (SOP, 8-Leads, Body 3x3mm, Pitch 0.65mm, IPC Medium Density)
footprint MAXM-U8+1_L (SOP, 8-Leads, Body 3x3mm, Pitch 0.65mm, IPC High Density)
footprint MAXM-U8+1_M (SOP, 8-Leads, Body 3x3mm, Pitch 0.65mm, IPC Low Density)
pins: 1 DQ (io) "Data Input/Output Pin (Tri-State) for 3-Wire Serial Communication", 2 CLK/~{CNV} (in) "Clock Input Pin for 3-Wire Serial Communication. Controls temperature measurements when the DS1626/DS1726 is configured as a stand-alone thermostat", 3 ~{RST} (in) "Reset Input Pin for 3-Wire Serial Communication", 4 GND (power) "Ground Pin", 5 TCOM (out) "Thermostat Output Pin (Push-Pull) with Programmable Hysteresis", 6 TLOW (out) "Thermostat Output Pin (Push-Pull) with TL Trip Point", 7 THIGH (out) "Thermostat Output Pin (Push-Pull) with TH Trip Point", 8 VDD (power) "Supply Voltage. +2.7V to +5.5V input power pin."

## DS1626U/T&R
designator U?
3-Wire + / - 0.5 degC Accurate Digital Thermometer and Thermostat, -55 to 125 degC, 8-Pin SOP (U8-1), Tape and Reel; Generic Part Number: DS1626; PartNumber: DS1626U/T&R; Functions: Dual Output Temperature Switch, Dual Temperature Alarms, Standalone Thermostat, Temperature Switch/Temperature Comparator; Interface: 3-Wire, Logic; Switch Type: Local; DatasheetVersion: Rev. 4; PackageVersion: Rev. L, 08/2009; PackageReference: U8-1; PackageDescription: 8-Pin Micro-MAX, Thin Shrink Small-Outline (U8-1), Body 3 x 3 mm, Pitch 0.65mm; Supplier 1: Mouser; Supplier Part Number 1: N/A; Packing: Tape and Reel; Mounting Technology: Surface Mount; Code_JEDEC: MO-187; ComponentLink1Description: Manufacturer URL; ComponentLink1URL: http://www.maximintegrated.com/; ComponentLink2Description: Datasheet; ComponentLink2URL: http://datasheets.maximintegrated.com/en/ds/DS1626-DS1726.pdf; ComponentLink3Description: Package Specification; ComponentLink3URL: http://pdfserv.maximintegrated.com/package_dwgs/21-0036.PDF
footprint MAXM-U8-1_N (SOP, 8-Leads, Body 3x3mm, Pitch 0.65mm, IPC Medium Density)
footprint MAXM-U8-1_L (SOP, 8-Leads, Body 3x3mm, Pitch 0.65mm, IPC High Density)
footprint MAXM-U8-1_M (SOP, 8-Leads, Body 3x3mm, Pitch 0.65mm, IPC Low Density)
pins: 1 DQ (io) "Data Input/Output Pin (Tri-State) for 3-Wire Serial Communication", 2 CLK/~{CNV} (in) "Clock Input Pin for 3-Wire Serial Communication. Controls temperature measurements when the DS1626/DS1726 is configured as a stand-alone thermostat", 3 ~{RST} (in) "Reset Input Pin for 3-Wire Serial Communication", 4 GND (power) "Ground Pin", 5 TCOM (out) "Thermostat Output Pin (Push-Pull) with Programmable Hysteresis", 6 TLOW (out) "Thermostat Output Pin (Push-Pull) with TL Trip Point", 7 THIGH (out) "Thermostat Output Pin (Push-Pull) with TH Trip Point", 8 VDD (power) "Supply Voltage. +2.7V to +5.5V input power pin."

## DS1629S
designator U?
Digital Thermometer and Real Time Clock / Calendar, 9 Bits Temperature Resolution, -55 to 125 degC, 8-Pin SOIC (S8-5); Generic Part Number: DS1629; PartNumber: DS1629S; Functions: RTC; Interface: 2-Wire/I2C/SMBus; Parasite Pwr.: No; DatasheetVersion: Rev. 1; PackageVersion: Rev. D, 10/2012; PackageReference: S8-5; PackageDescription: 8-Pin Small-Outline IC, Narrow (0.15in) (S8-5), Body 4.90 x 3.90 mm, Pitch 1.27 mm; Supplier 1: Digi-Key; Supplier Part Number 1: DS1629S-ND; Supplier 2: Mouser; Supplier Part Number 2: N/A; Mounting Technology: Surface Mount; Code_JEDEC: MS012; ComponentLink1Description: Manufacturer URL; ComponentLink1URL: http://www.maximintegrated.com/; ComponentLink2Description: Datasheet; ComponentLink2URL: http://datasheets.maximintegrated.com/en/ds/DS1629.pdf; ComponentLink3Description: Package Specification; ComponentLink3URL: http://pdfserv.maximintegrated.com/package_dwgs/21-0041.PDF
footprint MAXM-S8-5_N (SOIC, 8-Leads, Body 4.9x3.9mm, Pitch 1.27mm, IPC Medium Density)
footprint MAXM-S8-5_L (SOIC, 8-Leads, Body 4.9x3.9mm, Pitch 1.27mm, IPC High Density)
footprint MAXM-S8-5_M (SOIC, 8-Leads, Body 4.9x3.9mm, Pitch 1.27mm, IPC Low Density)
pins: 1 SDA (io) "Data input/output pin for 2-wire serial communication port.", 2 SCL (io) "Clock input/output pin for 2-wire serial communication port.", 3 ALRM (oc) "Alarm output Open drain time/temperature alarm output with configurable active state", 4 GND (power) "Ground pin.", 5 X2 "32.768 kHz Feedback Output .", 6 X1 "32.768 kHz Crystal input.", 7 OSC (oc) "Oscillator Output. Open-drain output used for microcontroller clock input.", 8 VDD (power) "Supply voltage 2.2V - 5.5V input power pin."

## DS1629S+
designator U?
Digital Thermometer and Real Time Clock / Calendar, 9 Bits Temperature Resolution, -55 to 125 degC, 8-Pin SOIC (S8+5), Pb-Free; Generic Part Number: DS1629; PartNumber: DS1629S+; Functions: RTC; Interface: 2-Wire/I2C/SMBus; Parasite Pwr.: No; DatasheetVersion: Rev. 1; PackageVersion: Rev. D, 10/2012; PackageReference: S8+5; PackageDescription: 8-Pin Small-Outline IC, Narrow (0.15in) (S8+5), Body 4.90 x 3.90 mm, Pitch 1.27 mm; Supplier 1: Digi-Key; Supplier Part Number 1: DS1629S+-ND; Supplier 2: Newark; Supplier Part Number 2: 57K0856; Supplier 3: Mouser; Supplier Part Number 3: 700-DS1629S; Mounting Technology: Surface Mount; Code_JEDEC: MS012; ComponentLink1Description: Manufacturer URL; ComponentLink1URL: http://www.maximintegrated.com/; ComponentLink2Description: Datasheet; ComponentLink2URL: http://datasheets.maximintegrated.com/en/ds/DS1629.pdf; ComponentLink3Description: Package Specification; ComponentLink3URL: http://pdfserv.maximintegrated.com/package_dwgs/21-0041.PDF
footprint MAXM-S8+5_N (SOIC, 8-Leads, Body 4.90x3.90mm, Pitch 1.27mm, IPC Medium Density)
footprint MAXM-S8+5_L (SOIC, 8-Leads, Body 4.90x3.90mm, Pitch 1.27mm, IPC High Density)
footprint MAXM-S8+5_M (SOIC, 8-Leads, Body 4.90x3.90mm, Pitch 1.27mm, IPC Low Density)
pins: 1 SDA (io) "Data input/output pin for 2-wire serial communication port.", 2 SCL (io) "Clock input/output pin for 2-wire serial communication port.", 3 ALRM (oc) "Alarm output Open drain time/temperature alarm output with configurable active state", 4 GND (power) "Ground pin.", 5 X2 "32.768 kHz Feedback Output .", 6 X1 "32.768 kHz Crystal input.", 7 OSC (oc) "Oscillator Output. Open-drain output used for microcontroller clock input.", 8 VDD (power) "Supply voltage 2.2V - 5.5V input power pin."

## DS1629S+T&R
designator U?
Digital Thermometer and Real Time Clock / Calendar, 9 Bits Temperature Resolution, -55 to 125 degC, 8-Pin SOIC (S8+5), Pb-Free, Tape and Reel; Generic Part Number: DS1629; PartNumber: DS1629S+T&R; Functions: RTC; Interface: 2-Wire/I2C/SMBus; Parasite Pwr.: No; DatasheetVersion: Rev. 1; PackageVersion: Rev. D, 10/2012; PackageReference: S8+5; PackageDescription: 8-Pin Small-Outline IC, Narrow (0.15in) (S8+5), Body 4.90 x 3.90 mm, Pitch 1.27 mm; Supplier 1: Digi-Key; Supplier Part Number 1: DS1629S+T&R-ND; Supplier 2: Mouser; Supplier Part Number 2: 700-DS1629ST&R; Packing: Tape and Reel; Mounting Technology: Surface Mount; Code_JEDEC: MS012; ComponentLink1Description: Manufacturer URL; ComponentLink1URL: http://www.maximintegrated.com/; ComponentLink2Description: Datasheet; ComponentLink2URL: http://datasheets.maximintegrated.com/en/ds/DS1629.pdf; ComponentLink3Description: Package Specification; ComponentLink3URL: http://pdfserv.maximintegrated.com/package_dwgs/21-0041.PDF
footprint MAXM-S8+5_N (SOIC, 8-Leads, Body 4.90x3.90mm, Pitch 1.27mm, IPC Medium Density)
footprint MAXM-S8+5_L (SOIC, 8-Leads, Body 4.90x3.90mm, Pitch 1.27mm, IPC High Density)
footprint MAXM-S8+5_M (SOIC, 8-Leads, Body 4.90x3.90mm, Pitch 1.27mm, IPC Low Density)
pins: 1 SDA (io) "Data input/output pin for 2-wire serial communication port.", 2 SCL (io) "Clock input/output pin for 2-wire serial communication port.", 3 ALRM (oc) "Alarm output Open drain time/temperature alarm output with configurable active state", 4 GND (power) "Ground pin.", 5 X2 "32.768 kHz Feedback Output .", 6 X1 "32.768 kHz Crystal input.", 7 OSC (oc) "Oscillator Output. Open-drain output used for microcontroller clock input.", 8 VDD (power) "Supply voltage 2.2V - 5.5V input power pin."

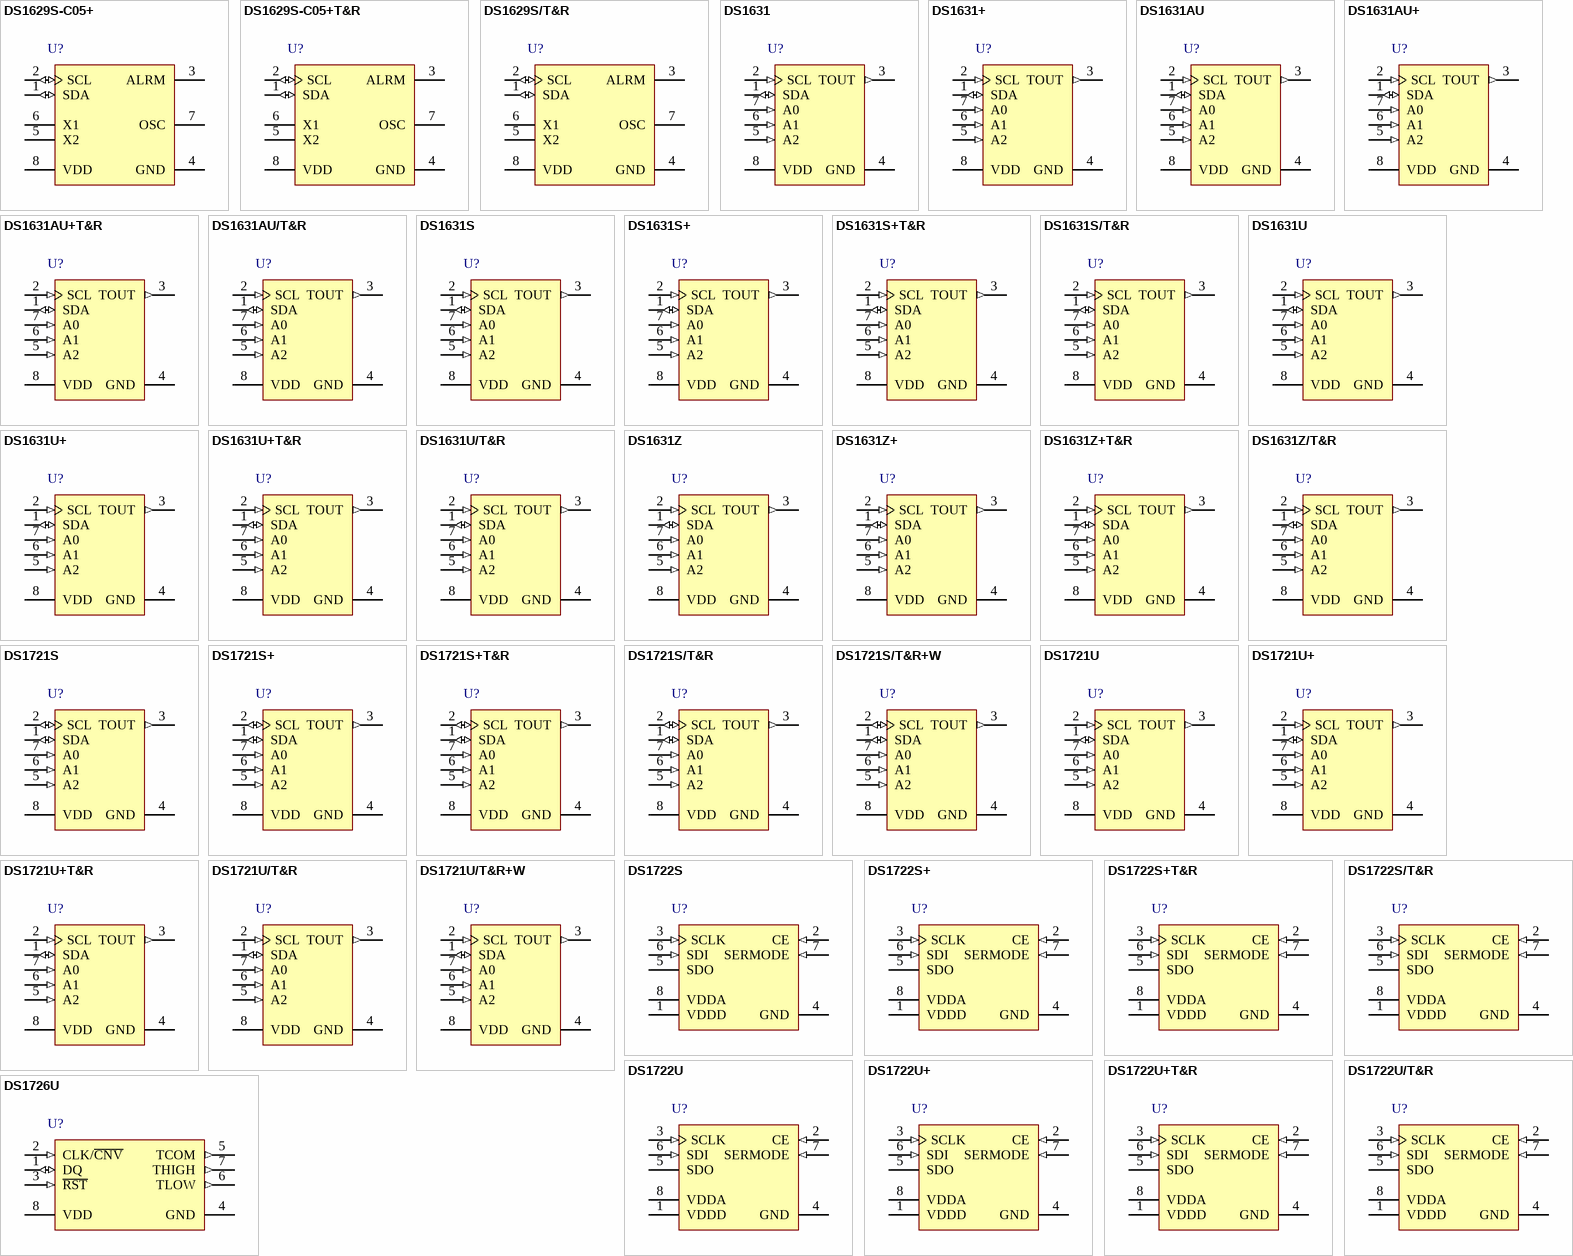
[diagram p2: symbols DS1629S-C05+ to DS1726U]

## DS1629S-C05+
designator U?
Digital Thermometer and Real Time Clock / Calendar, 9 Bits Temperature Resolution, -55 to 125 degC, 8-Pin SOIC (S8+5), Pb-Free; Generic Part Number: DS1629; PartNumber: DS1629S-C05+; Functions: RTC; Interface: 2-Wire/I2C/SMBus; Parasite Pwr.: No; DatasheetVersion: Rev. 1; PackageVersion: Rev. D, 10/2012; PackageReference: S8+5; PackageDescription: 8-Pin Small-Outline IC, Narrow (0.15in) (S8+5), Body 4.90 x 3.90 mm, Pitch 1.27 mm; Supplier 1: Digi-Key; Supplier Part Number 1: DS1629S-C05+-ND; Supplier 2: Mouser; Supplier Part Number 2: 700-DS1629S-C05+; Mounting Technology: Surface Mount; Code_JEDEC: MS012; ComponentLink1Description: Manufacturer URL; ComponentLink1URL: http://www.maximintegrated.com/; ComponentLink2Description: Datasheet; ComponentLink2URL: http://datasheets.maximintegrated.com/en/ds/DS1629.pdf; ComponentLink3Description: Package Specification; ComponentLink3URL: http://pdfserv.maximintegrated.com/package_dwgs/21-0041.PDF
footprint MAXM-S8+5_N (SOIC, 8-Leads, Body 4.90x3.90mm, Pitch 1.27mm, IPC Medium Density)
footprint MAXM-S8+5_L (SOIC, 8-Leads, Body 4.90x3.90mm, Pitch 1.27mm, IPC High Density)
footprint MAXM-S8+5_M (SOIC, 8-Leads, Body 4.90x3.90mm, Pitch 1.27mm, IPC Low Density)
pins: 1 SDA (io) "Data input/output pin for 2-wire serial communication port.", 2 SCL (io) "Clock input/output pin for 2-wire serial communication port.", 3 ALRM (oc) "Alarm output Open drain time/temperature alarm output with configurable active state", 4 GND (power) "Ground pin.", 5 X2 "32.768 kHz Feedback Output .", 6 X1 "32.768 kHz Crystal input.", 7 OSC (oc) "Oscillator Output. Open-drain output used for microcontroller clock input.", 8 VDD (power) "Supply voltage 2.2V - 5.5V input power pin."

## DS1629S-C05+T&R
designator U?
Digital Thermometer and Real Time Clock / Calendar, 9 Bits Temperature Resolution, -55 to 125 degC, 8-Pin SOIC (S8+5), Pb-Free, Tape and Reel; Generic Part Number: DS1629; PartNumber: DS1629S-C05+T&R; Functions: RTC; Interface: 2-Wire/I2C/SMBus; Parasite Pwr.: No; DatasheetVersion: Rev. 1; PackageVersion: Rev. D, 10/2012; PackageReference: S8+5; PackageDescription: 8-Pin Small-Outline IC, Narrow (0.15in) (S8+5), Body 4.90 x 3.90 mm, Pitch 1.27 mm; Supplier 1: Digi-Key; Supplier Part Number 1: DS1629S-C05+T&R-ND; Supplier 2: Mouser; Supplier Part Number 2: N/A; Packing: Tape and Reel; Mounting Technology: Surface Mount; Code_JEDEC: MS012; ComponentLink1Description: Manufacturer URL; ComponentLink1URL: http://www.maximintegrated.com/; ComponentLink2Description: Datasheet; ComponentLink2URL: http://datasheets.maximintegrated.com/en/ds/DS1629.pdf; ComponentLink3Description: Package Specification; ComponentLink3URL: http://pdfserv.maximintegrated.com/package_dwgs/21-0041.PDF
footprint MAXM-S8+5_N (SOIC, 8-Leads, Body 4.90x3.90mm, Pitch 1.27mm, IPC Medium Density)
footprint MAXM-S8+5_L (SOIC, 8-Leads, Body 4.90x3.90mm, Pitch 1.27mm, IPC High Density)
footprint MAXM-S8+5_M (SOIC, 8-Leads, Body 4.90x3.90mm, Pitch 1.27mm, IPC Low Density)
pins: 1 SDA (io) "Data input/output pin for 2-wire serial communication port.", 2 SCL (io) "Clock input/output pin for 2-wire serial communication port.", 3 ALRM (oc) "Alarm output Open drain time/temperature alarm output with configurable active state", 4 GND (power) "Ground pin.", 5 X2 "32.768 kHz Feedback Output .", 6 X1 "32.768 kHz Crystal input.", 7 OSC (oc) "Oscillator Output. Open-drain output used for microcontroller clock input.", 8 VDD (power) "Supply voltage 2.2V - 5.5V input power pin."